# Altium schematic symbol library SCH - CONNECTORS - TE 966140-5.Schlib: 1 symbol
Pins are listed as number, name and electrical type; pins without a type are passive.

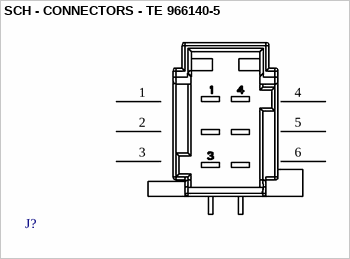
[diagram p0: symbol SCH - CONNECTORS - TE 966140-5]

## SCH - CONNECTORS - TE 966140-5
designator J?
footprint *TE_966140-5
pins: 1, 2, 3, 4, 5, 6